# EAGLE library part SCHROFF-30925-001_9 (library 1A-meinLib)
Leiterplatten-Stromschiene, 30A, 2.5 mOhm/m, 9 Lötstifte, 129mm lg., Schroff 30925-001
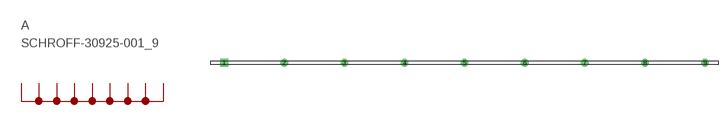
[diagram p259: symbol with the pads of SCHROFF-30925-001_129LG; footprint SCHROFF-30925-001_129LG]

Designator prefix A

## SCHROFF-30925-001_9  [SCHROFF-30925-001_129LG]
1  P$1  pas
2  P$2  pas
3  P$3  pas
4  P$4  pas
5  P$5  pas
6  P$6  pas
7  P$7  pas
8  P$8  pas
9  P$9  pas

## Footprint SCHROFF-30925-001_129LG (pad centres in mm)
Leiterplatten-Stromschiene, 30A, 2.5 mOhm/m, 9 Lötstifte, 129mm lg., Schroff 30925-001
drill 1.3 square: 1 0,0
drill 1.3 round: 2 15.24,0; 3 30.48,0; 4 45.72,0; 5 60.96,0; 6 76.2,0; 7 91.44,0; 8 106.68,0; 9 121.92,0